# EAGLE library part MAX31855 (library IntegerLabs)
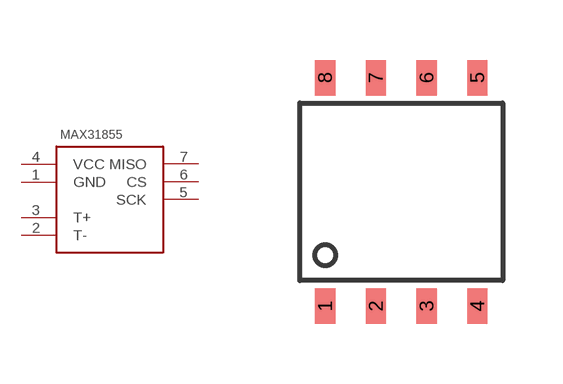
[diagram p15: symbol with the pads of SOIC-8; footprint SOIC-8]

Designator prefix -

## MAX31855  [SOIC-8]
1  GND
2  T-
3  T+
4  VCC
5  SCK
6  CS
7  MISO

## Footprint SOIC-8 (pad centres in mm)
smd 0.508 x 0.889: 1 -1.27,-3.175; 2 0,-3.175; 3 1.27,-3.175; 4 2.54,-3.175; 5 2.54,2.54; 6 1.27,2.54; 7 0,2.54; 8 -1.27,2.54